# Altium integrated library Analog Devices Data Converters Analog-to-Digital Converters.IntLib: 2400 symbols (part 314 of 338)
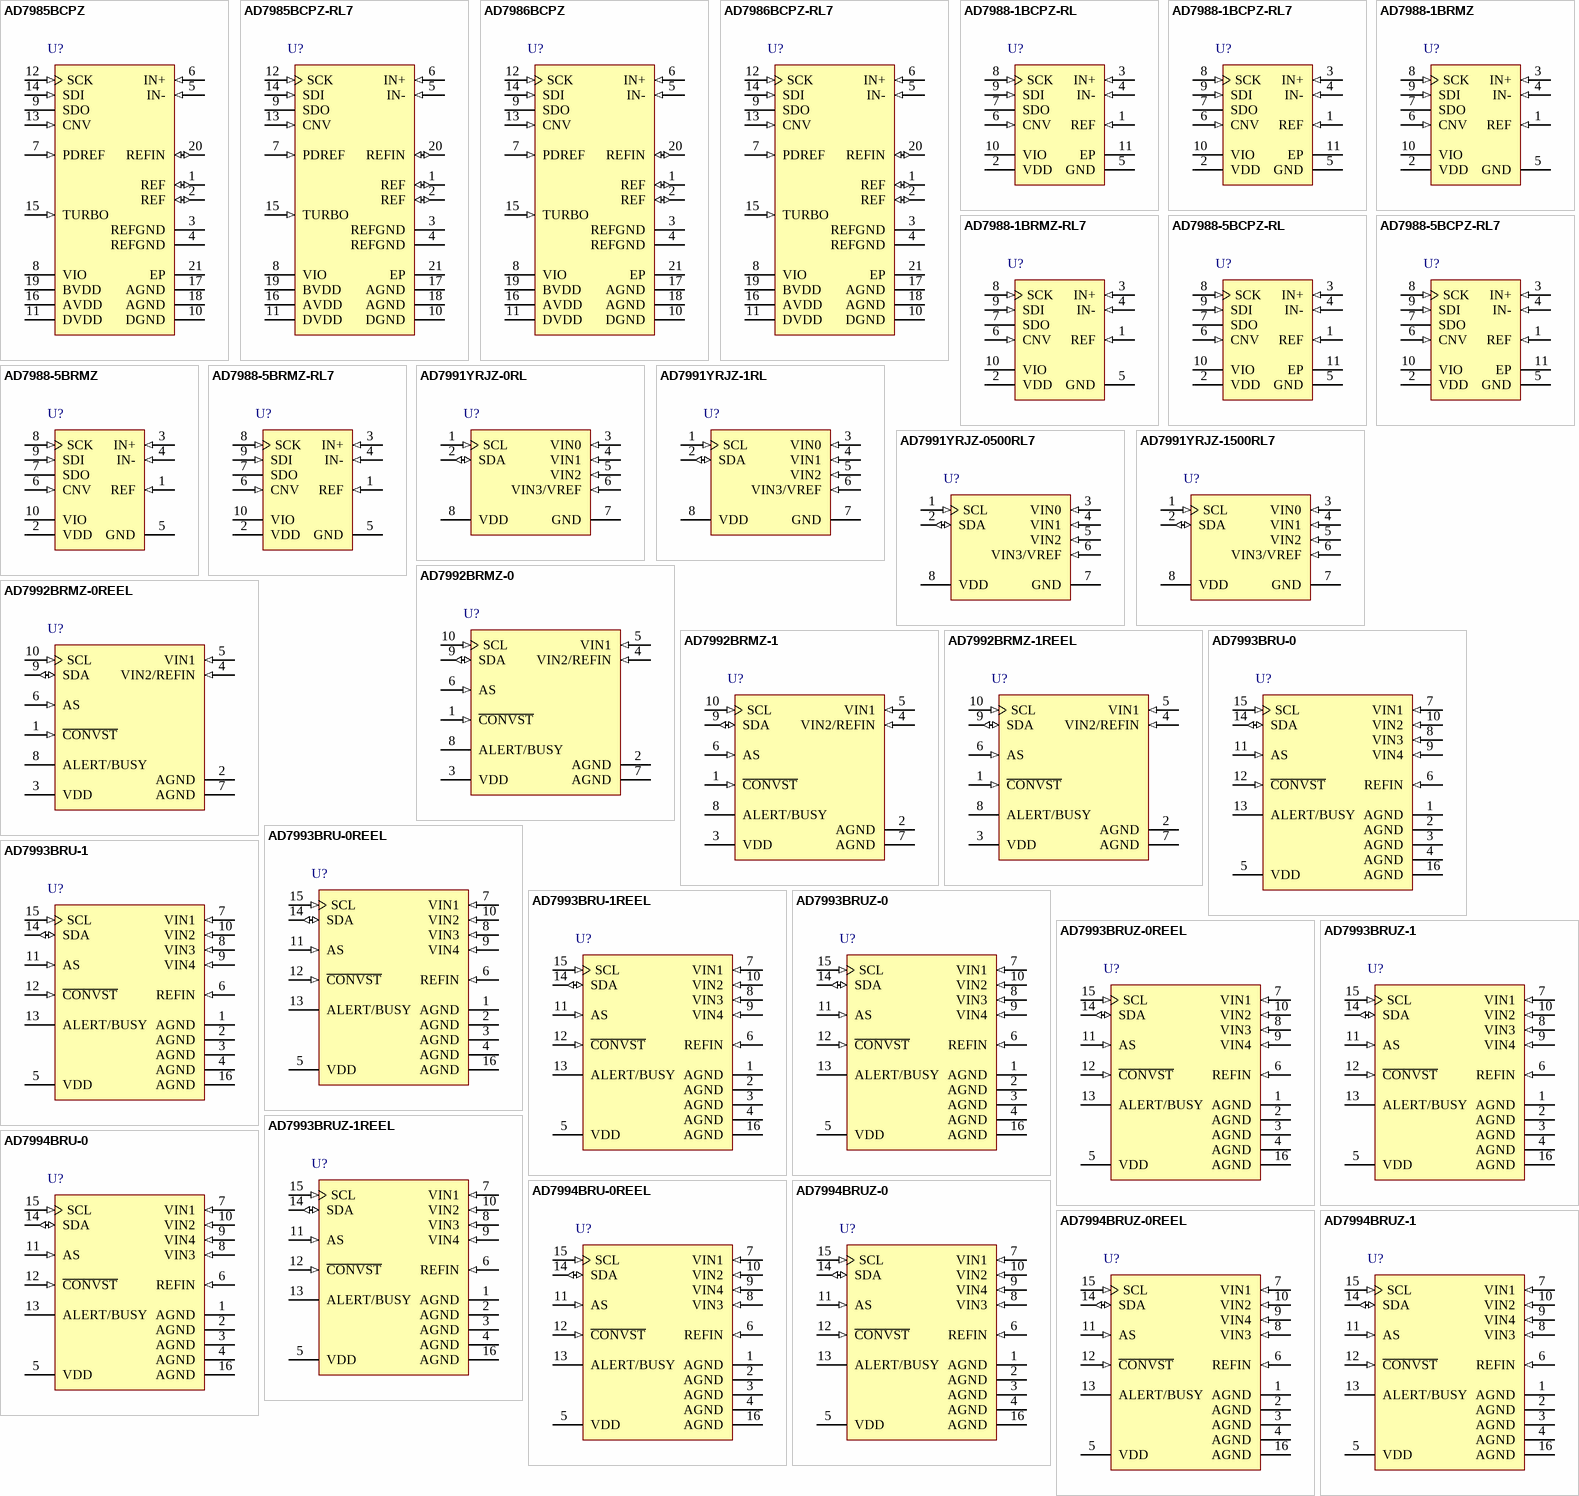
[diagram p426: symbols AD7985BCPZ to AD7994BRUZ-1]

## AD7985BCPZ
designator U?
Single 16-Bit PulSAR Analog-to-Digital Converter with Serial, SPI Interface, 2.5MSPS, -40 to +85 degC, CP-20-4, Pb-Free, Tray; Part Number: AD7985; Manufacturer: Analog Devices; Resolution (Bits): 16; Channels: 1; Throughput Rate (SPS): 2.5M; Interface: Ser, SPI; DatasheetVersion: Rev.A; PackageVersion: 012508-B; PackageReference: CP-20-4; PackageDescription: 20-Lead Lead Frame Chip Scale Package [LFCSP_VQ] 4 x 4 mm Body, Very Thin Quad; RoHS: Y; Packing: Tray; Mounting Technology: Surface Mount; Code_JEDEC: MO-220-VGGD-1; ComponentLink1Description: Manufacturer URL; ComponentLink1URL: http://www.analog.com/en/index.html; ComponentLink2Description: Datasheet; ComponentLink2URL: http://www.analog.com/static/imported-files/data_sheets/AD7985.pdf; ComponentLink3Description: Package Specification; ComponentLink3URL: http://www.analog.com/static/imported-files/packages/PKG_PDF/LFCSP(CP)/CP_20_4.pdf; ComponentLink4Description: Product URL; ComponentLink4URL: http://www.analog.com/en/analog-to-digital-converters/ad-converters/ad7985/products/product.html
footprint CP-20-4_N (QFN, 20-Leads, Body 4x4mm, Pitch 0.5mm, Thermal Pad 2.5x2.5mm, IPC Medium Density)
footprint CP-20-4_L (QFN, 20-Leads, Body 4x4mm, Pitch 0.5mm, Thermal Pad 2.5x2.5mm, IPC High Density)
footprint CP-20-4_M (QFN, 20-Leads, Body 4x4mm, Pitch 0.5mm, Thermal Pad 2.5x2.5mm, IPC Low Density)
pins: 1 REF (io) "Reference Output/Input Voltage.When PDREF is low, the internal reference and buffer are enabled, producing 4.096 V on this pin.When PDREF is high, the internal reference and buffer are disabled, allowing an externally (See Datasheet)", 2 REF (io) "Reference Output/Input Voltage.When PDREF is low, the internal reference and buffer are enabled, producing 4.096 V on this pin.When PDREF is high, the internal reference and buffer are disabled, allowing an externally (See Datasheet)", 3 REFGND (power) "Reference Input Analog Ground.", 4 REFGND (power) "Reference Input Analog Ground.", 5 IN- (in) "Analog Input Ground Sense. Connect this pin to the analog ground plane or to a remote ground sense.", 6 IN+ (in) "Analog Input. This pin is referred to IN?. The voltage range, that is, the difference between IN+ and IN-, is 0 V to VREF.", 7 PDREF (in) "Internal Reference Power-Down Input. When this pin is low, the internal reference is enabled. When this pin is high, the internal reference is powered down and an external reference must be used.", 8 VIO (power) "Input/Output Interface Digital Power. Nominally at the same supply voltage as the host interface (1.8 V, 2.5 V, or 2.7 V).", 9 SDO (hiz) "Serial Data Output. The conversion result is output on this pin. It is synchronized to SCK.", 10 DGND (power) "Digital Power Ground.", 11 DVDD (power) "Digital Power. Nominally at 2.5 V.", 12 SCK (in) "Serial Data Clock Input. When the part is selected, the conversion result is shifted out by this clock.", 13 CNV (in) "Convert Input. This input has multiple functions. On its leading edge, it initiates the conversions and selects the interface mode of the part: chain mode or CS mode. In CS mode, the SDO pin is enabled when CNV is low. In (See Datasheet)", 14 SDI (in) "Serial Data Input. This input has multiple functions. It selects the interface mode of the ADC as follows. Chain mode is selected if SDI is low during the CNV rising edge. In chain mode, SDI is used as a data input to (See Datasheet)", 15 TURBO (in) "Conversion Mode Selection. When TURBO is high, the maximum throughput (2.5 MSPS) is achieved, and the ADC does not power down between conversions. When TURBO is low, the maximum throughput is lower (2.0 MSPS), and the ADC (See Datasheet)", 16 AVDD (power) "Input Analog Power. Nominally at 2.5 V.", 17 AGND (power) "Analog Power Ground.", 18 AGND (power) "Analog Power Ground.", 19 BVDD (power) "Reference Buffer Power. Nominally at 5.0 V. If an external reference buffer is used to achieve the maximum SNR performance with a 5 V reference, the reference buffer must be powered down by connecting the REFIN pin to ground.(See Datasheet)", 20 REFIN (io) "Internal Reference Output/Reference Buffer Input. When PDREF is low, the internal band gap reference produces a 1.2 V (typical) voltage on this pin, which needs external decoupling (0.1 uF typical). When PDREF is high, use (See Datasheet)", 21 EP (power) "The exposed pad is not connected internally. For increased reliability of the solder joints, it is recommended that the pad be soldered to the system ground plane."

## AD7985BCPZ-RL7
designator U?
Single 16-Bit PulSAR Analog-to-Digital Converter with Serial, SPI Interface, 2.5MSPS, -40 to +85 degC, CP-20-4, Pb-Free, Reel; Part Number: AD7985; Manufacturer: Analog Devices; Resolution (Bits): 16; Channels: 1; Throughput Rate (SPS): 2.5M; Interface: Ser, SPI; DatasheetVersion: Rev.A; PackageVersion: 012508-B; PackageReference: CP-20-4; PackageDescription: 20-Lead Lead Frame Chip Scale Package [LFCSP_VQ] 4 x 4 mm Body, Very Thin Quad; RoHS: Y; Packing: Reel; Mounting Technology: Surface Mount; Code_JEDEC: MO-220-VGGD-1; ComponentLink1Description: Manufacturer URL; ComponentLink1URL: http://www.analog.com/en/index.html; ComponentLink2Description: Datasheet; ComponentLink2URL: http://www.analog.com/static/imported-files/data_sheets/AD7985.pdf; ComponentLink3Description: Package Specification; ComponentLink3URL: http://www.analog.com/static/imported-files/packages/PKG_PDF/LFCSP(CP)/CP_20_4.pdf; ComponentLink4Description: Product URL; ComponentLink4URL: http://www.analog.com/en/analog-to-digital-converters/ad-converters/ad7985/products/product.html
footprint CP-20-4_N (QFN, 20-Leads, Body 4x4mm, Pitch 0.5mm, Thermal Pad 2.5x2.5mm, IPC Medium Density)
footprint CP-20-4_L (QFN, 20-Leads, Body 4x4mm, Pitch 0.5mm, Thermal Pad 2.5x2.5mm, IPC High Density)
footprint CP-20-4_M (QFN, 20-Leads, Body 4x4mm, Pitch 0.5mm, Thermal Pad 2.5x2.5mm, IPC Low Density)
pins: 1 REF (io) "Reference Output/Input Voltage.When PDREF is low, the internal reference and buffer are enabled, producing 4.096 V on this pin.When PDREF is high, the internal reference and buffer are disabled, allowing an externally (See Datasheet)", 2 REF (io) "Reference Output/Input Voltage.When PDREF is low, the internal reference and buffer are enabled, producing 4.096 V on this pin.When PDREF is high, the internal reference and buffer are disabled, allowing an externally (See Datasheet)", 3 REFGND (power) "Reference Input Analog Ground.", 4 REFGND (power) "Reference Input Analog Ground.", 5 IN- (in) "Analog Input Ground Sense. Connect this pin to the analog ground plane or to a remote ground sense.", 6 IN+ (in) "Analog Input. This pin is referred to IN?. The voltage range, that is, the difference between IN+ and IN-, is 0 V to VREF.", 7 PDREF (in) "Internal Reference Power-Down Input. When this pin is low, the internal reference is enabled. When this pin is high, the internal reference is powered down and an external reference must be used.", 8 VIO (power) "Input/Output Interface Digital Power. Nominally at the same supply voltage as the host interface (1.8 V, 2.5 V, or 2.7 V).", 9 SDO (hiz) "Serial Data Output. The conversion result is output on this pin. It is synchronized to SCK.", 10 DGND (power) "Digital Power Ground.", 11 DVDD (power) "Digital Power. Nominally at 2.5 V.", 12 SCK (in) "Serial Data Clock Input. When the part is selected, the conversion result is shifted out by this clock.", 13 CNV (in) "Convert Input. This input has multiple functions. On its leading edge, it initiates the conversions and selects the interface mode of the part: chain mode or CS mode. In CS mode, the SDO pin is enabled when CNV is low. In (See Datasheet)", 14 SDI (in) "Serial Data Input. This input has multiple functions. It selects the interface mode of the ADC as follows. Chain mode is selected if SDI is low during the CNV rising edge. In chain mode, SDI is used as a data input to (See Datasheet)", 15 TURBO (in) "Conversion Mode Selection. When TURBO is high, the maximum throughput (2.5 MSPS) is achieved, and the ADC does not power down between conversions. When TURBO is low, the maximum throughput is lower (2.0 MSPS), and the ADC (See Datasheet)", 16 AVDD (power) "Input Analog Power. Nominally at 2.5 V.", 17 AGND (power) "Analog Power Ground.", 18 AGND (power) "Analog Power Ground.", 19 BVDD (power) "Reference Buffer Power. Nominally at 5.0 V. If an external reference buffer is used to achieve the maximum SNR performance with a 5 V reference, the reference buffer must be powered down by connecting the REFIN pin to ground.(See Datasheet)", 20 REFIN (io) "Internal Reference Output/Reference Buffer Input. When PDREF is low, the internal band gap reference produces a 1.2 V (typical) voltage on this pin, which needs external decoupling (0.1 uF typical). When PDREF is high, use (See Datasheet)", 21 EP (power) "The exposed pad is not connected internally. For increased reliability of the solder joints, it is recommended that the pad be soldered to the system ground plane."

## AD7986BCPZ
designator U?
Single 18-Bit PulSAR Analog-to-Digital Converter with Serial, SPI Interface, 2MSPS, -40 to +85 degC, CP-20-4, Pb-Free, Tray; Part Number: AD7986; Manufacturer: Analog Devices; Resolution (Bits): 18; Channels: 1; Throughput Rate (SPS): 2M; Interface: Ser, SPI; DatasheetVersion: Rev.B; PackageVersion: 012508-B; PackageReference: CP-20-4; PackageDescription: 20-Lead Lead Frame Chip Scale Package [LFCSP_VQ] 4 x 4 mm Body, Very Thin Quad; RoHS: Y; Packing: Tray; Mounting Technology: Surface Mount; Code_JEDEC: MO-220-VGGD-1; ComponentLink1Description: Manufacturer URL; ComponentLink1URL: http://www.analog.com/en/index.html; ComponentLink2Description: Datasheet; ComponentLink2URL: http://www.analog.com/static/imported-files/data_sheets/AD7986.pdf; ComponentLink3Description: Package Specification; ComponentLink3URL: http://www.analog.com/static/imported-files/packages/PKG_PDF/LFCSP(CP)/CP_20_4.pdf; ComponentLink4Description: Product URL; ComponentLink4URL: http://www.analog.com/en/analog-to-digital-converters/ad-converters/ad7986/products/product.html
footprint CP-20-4_N (QFN, 20-Leads, Body 4x4mm, Pitch 0.5mm, Thermal Pad 2.5x2.5mm, IPC Medium Density)
footprint CP-20-4_L (QFN, 20-Leads, Body 4x4mm, Pitch 0.5mm, Thermal Pad 2.5x2.5mm, IPC High Density)
footprint CP-20-4_M (QFN, 20-Leads, Body 4x4mm, Pitch 0.5mm, Thermal Pad 2.5x2.5mm, IPC Low Density)
pins: 1 REF (io) "Reference Output/Input Voltage. When PDREF = low, the internal reference and buffer are enabled, producing 4.096 V on this pin. When PDREF = high, the internal reference and buffer are disabled, allowing an externally (See Datasheet)", 2 REF (io) "Reference Output/Input Voltage. When PDREF = low, the internal reference and buffer are enabled, producing 4.096 V on this pin. When PDREF = high, the internal reference and buffer are disabled, allowing an externally (See Datasheet)", 3 REFGND (power) "Reference Input Analog Ground.", 4 REFGND (power) "Reference Input Analog Ground.", 5 IN- (in) "Differential Negative Analog Input.", 6 IN+ (in) "Differential Positive Analog Input.", 7 PDREF (in) "Internal Reference Power-Down Input. When low, the internal reference is enabled. When high, the internal reference is powered down and an external reference must be used.", 8 VIO (power) "Input/Output Interface Digital Power. Nominally at the same supply as the host interface (1.8 V, 2.5 V, or 2.7 V).", 9 SDO (hiz) "Serial Data Output. The conversion result is output on this pin. It is synchronized to SCK.", 10 DGND "Digital Power Ground.", 11 DVDD (power) "Digital Power. Nominally at 2.5 V.", 12 SCK (in) "Serial Data Clock Input. When the part is selected, the conversion result is shifted out by this clock.", 13 CNV (in) "Convert Input. This input has multiple functions. On its leading edge, it initiates the conversions and selects the interface mode of the part: chain mode or C\S\ mode. In C\S\ mode, the SDO pin is enabled when CNV is low. (See Datasheet)", 14 SDI (in) "Serial Data Input. This input provides multiple features. It selects the interface mode of the ADC as follows: Chain mode is selected if SDI is low during the CNV rising edge. In this mode, SDI is used as a data input to (See Datasheet)", 15 TURBO (in) "Conversion Mode Selection.When TURBO = high, the maximum throughput (2 MSPS) is achieved. The ADC does not power down between conversions. When TURBO = low, the maximum throughput is lower (1.5 MSPS). The ADC powers down (See Datasheet)", 16 AVDD (power) "Input Analog Power. Nominally at 2.5 V.", 17 AGND "Analog Power Ground.", 18 AGND "Analog Power Ground.", 19 BVDD (power) "Reference buffer power. Nominally 5.0 V. If an external reference buffer is used to achieve the maximum SNR performance with 5 V reference, the reference buffer must be powered down by connecting the REFIN pin to ground. The (See Datasheet)", 20 REFIN (io) "Internal Reference Output/Reference Buffer Input. When PDREF = low, the internal band gap reference produces a 1.2 V (typical) voltage on this pin, which needs external decoupling (0.1 µF typical). When PDREF = high, use an (See Datasheet)", 21 EP "The exposed pad is not connected internally. For increased reliability of the solder joints, it is recommended that the pad be soldered to the system ground plane."

## AD7986BCPZ-RL7
designator U?
Single 18-Bit PulSAR Analog-to-Digital Converter with Serial, SPI Interface, 2MSPS, -40 to +85 degC, CP-20-4, Pb-Free, Reel; Part Number: AD7986; Manufacturer: Analog Devices; Resolution (Bits): 18; Channels: 1; Throughput Rate (SPS): 2M; Interface: Ser, SPI; DatasheetVersion: Rev.B; PackageVersion: 012508-B; PackageReference: CP-20-4; PackageDescription: 20-Lead Lead Frame Chip Scale Package [LFCSP_VQ] 4 x 4 mm Body, Very Thin Quad; RoHS: Y; Packing: Reel; Mounting Technology: Surface Mount; Code_JEDEC: MO-220-VGGD-1; ComponentLink1Description: Manufacturer URL; ComponentLink1URL: http://www.analog.com/en/index.html; ComponentLink2Description: Datasheet; ComponentLink2URL: http://www.analog.com/static/imported-files/data_sheets/AD7986.pdf; ComponentLink3Description: Package Specification; ComponentLink3URL: http://www.analog.com/static/imported-files/packages/PKG_PDF/LFCSP(CP)/CP_20_4.pdf; ComponentLink4Description: Product URL; ComponentLink4URL: http://www.analog.com/en/analog-to-digital-converters/ad-converters/ad7986/products/product.html
footprint CP-20-4_N (QFN, 20-Leads, Body 4x4mm, Pitch 0.5mm, Thermal Pad 2.5x2.5mm, IPC Medium Density)
footprint CP-20-4_L (QFN, 20-Leads, Body 4x4mm, Pitch 0.5mm, Thermal Pad 2.5x2.5mm, IPC High Density)
footprint CP-20-4_M (QFN, 20-Leads, Body 4x4mm, Pitch 0.5mm, Thermal Pad 2.5x2.5mm, IPC Low Density)
pins: 1 REF (io) "Reference Output/Input Voltage. When PDREF = low, the internal reference and buffer are enabled, producing 4.096 V on this pin. When PDREF = high, the internal reference and buffer are disabled, allowing an externally (See Datasheet)", 2 REF (io) "Reference Output/Input Voltage. When PDREF = low, the internal reference and buffer are enabled, producing 4.096 V on this pin. When PDREF = high, the internal reference and buffer are disabled, allowing an externally (See Datasheet)", 3 REFGND (power) "Reference Input Analog Ground.", 4 REFGND (power) "Reference Input Analog Ground.", 5 IN- (in) "Differential Negative Analog Input.", 6 IN+ (in) "Differential Positive Analog Input.", 7 PDREF (in) "Internal Reference Power-Down Input. When low, the internal reference is enabled. When high, the internal reference is powered down and an external reference must be used.", 8 VIO (power) "Input/Output Interface Digital Power. Nominally at the same supply as the host interface (1.8 V, 2.5 V, or 2.7 V).", 9 SDO (hiz) "Serial Data Output. The conversion result is output on this pin. It is synchronized to SCK.", 10 DGND "Digital Power Ground.", 11 DVDD (power) "Digital Power. Nominally at 2.5 V.", 12 SCK (in) "Serial Data Clock Input. When the part is selected, the conversion result is shifted out by this clock.", 13 CNV (in) "Convert Input. This input has multiple functions. On its leading edge, it initiates the conversions and selects the interface mode of the part: chain mode or C\S\ mode. In C\S\ mode, the SDO pin is enabled when CNV is low. (See Datasheet)", 14 SDI (in) "Serial Data Input. This input provides multiple features. It selects the interface mode of the ADC as follows: Chain mode is selected if SDI is low during the CNV rising edge. In this mode, SDI is used as a data input to (See Datasheet)", 15 TURBO (in) "Conversion Mode Selection.When TURBO = high, the maximum throughput (2 MSPS) is achieved. The ADC does not power down between conversions. When TURBO = low, the maximum throughput is lower (1.5 MSPS). The ADC powers down (See Datasheet)", 16 AVDD (power) "Input Analog Power. Nominally at 2.5 V.", 17 AGND "Analog Power Ground.", 18 AGND "Analog Power Ground.", 19 BVDD (power) "Reference buffer power. Nominally 5.0 V. If an external reference buffer is used to achieve the maximum SNR performance with 5 V reference, the reference buffer must be powered down by connecting the REFIN pin to ground. The (See Datasheet)", 20 REFIN (io) "Internal Reference Output/Reference Buffer Input. When PDREF = low, the internal band gap reference produces a 1.2 V (typical) voltage on this pin, which needs external decoupling (0.1 µF typical). When PDREF = high, use an (See Datasheet)", 21 EP "The exposed pad is not connected internally. For increased reliability of the solder joints, it is recommended that the pad be soldered to the system ground plane."